# EAGLE library part SCREWTERM_8PIN (library logic-supply)
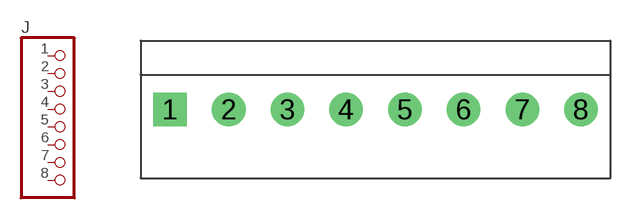
[diagram p23: symbol with the pads of SCREWTERM_284391_8; footprint SCREWTERM_284391_8]

Designator prefix J

## SCREWTERM_8PIN  [SCREWTERM_284391_8]
1  1  pas
2  2  pas
3  3  pas
4  4  pas
5  5  pas
6  6  pas
7  7  pas
8  8  pas

## Footprint SCREWTERM_284391_8 (pad centres in mm)
TE Connectivity 284391 series screw terminal. 6 pin - 3.5mm pitch.
drill 1.2 pad 2 square: 1 0,0
drill 1.2 pad 2: 2 3.5,0; 3 7,0; 4 10.5,0; 5 14,0; 6 17.5,0; 7 21,0; 8 24.5,0